# Altium footprint library Seeed-OPL-Transistor.PCBLIB: 13 footprints
Each footprint in its own frame and in the unit in brackets; x right, y up, seen from the top. Pads: shape width x height; smd on the part's side, far side on the other; paste and mask are expansions set on the pad; w line width, h text height; cw(c..) or ccw(c..) is an arc to the next point about the centre after c.
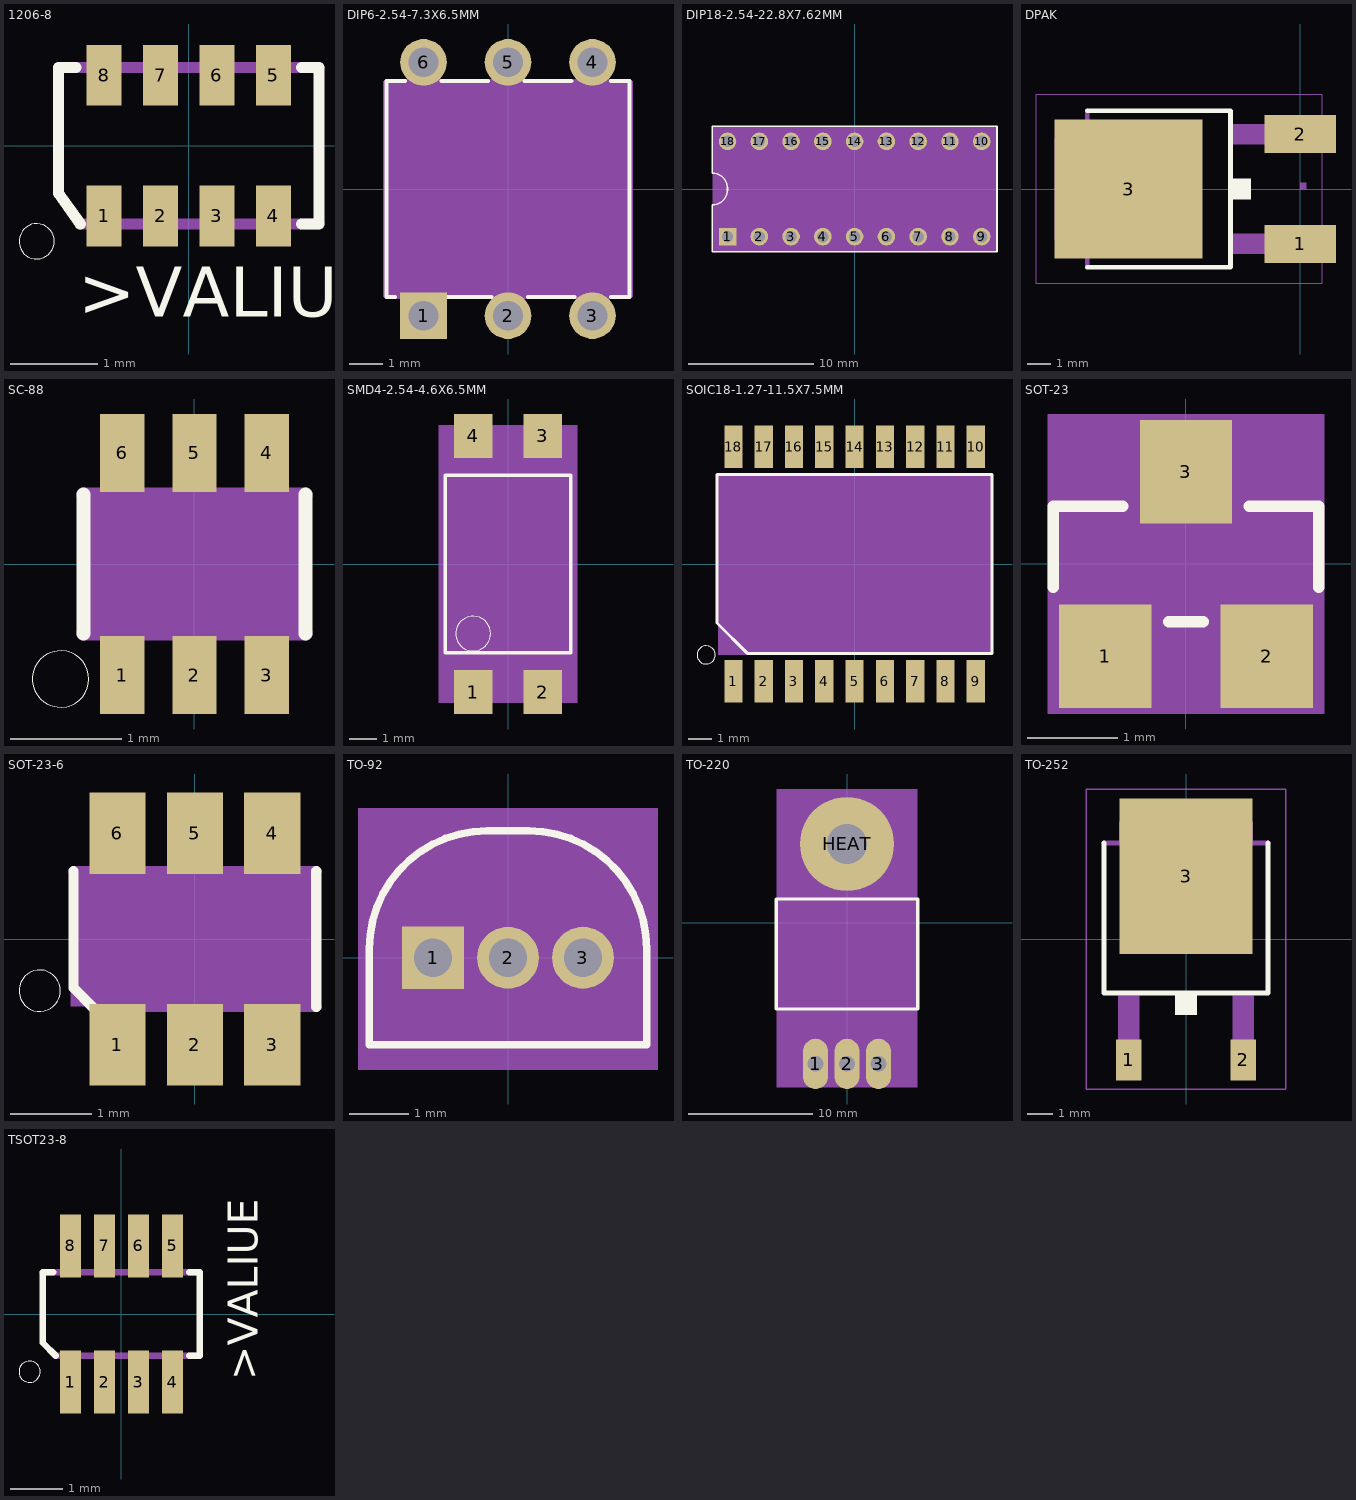
[diagram p0: the footprints below, top view; thin cyan lines are the x and y axes]

## 1206-8 [mm]
pads (8):
  rect 0.4x0.7 smd: 1(-0.975,-0.81) 2(-0.325,-0.81) 3(0.325,-0.81) 4(0.975,-0.81) 5(0.975,0.81) 6(0.325,0.81) 7(-0.325,0.81) 8(-0.975,0.81)
Top Overlay:
  circle w0: c-1.752,-1.102 r0.203
  lines w0.127: -1.3,0.9 -1.5,0.9 -1.5,-0.55 -1.25,-0.9 ; 1.3,-0.9 1.5,-0.9 1.5,0.9 1.3,0.9
  text ">VALIUE" at -1.27,-2.159 h0.98
Mechanical 16:
  lines w0.127: -1.5,0.9 1.5,0.9 ; -1.25,-0.9 1.5,-0.9

## DIP6-2.54-7.3X6.5MM [mil]
pads (6):
  rect 55.12x55.12 hole 35.43: 1(-100,-150)
  round 55.12 hole 35.43: 2(0,-150) 3(100,-150) 4(100,150) 5(0,150) 6(-100,150)
Top Overlay:
  lines w5: -143.7,127.95 -143.7,-127.95 -133.86,-127.95 ; -141.73,127.95 -122.05,127.95 ; -78.74,127.95 -23.62,127.95 ; -70.87,-127.95 -19.69,-127.95 ; 19.69,127.95 74.8,127.95 ; 23.62,-127.95 78.74,-127.95 ; 122.05,-127.95 141.73,-127.95 ; 122.05,127.95 141.73,127.95 ; 143.7,-127.95 143.7,127.95
Mechanical 16:
  lines w5: -143.7,-127.95 143.7,-127.95 ; -143.7,127.95 143.7,127.95
Mechanical 27:
  rectangle: -148.03,-127.95 148.03,127.95

## DIP18-2.54-22.8X7.62MM [mil]
pads (18):
  rect 55.12x55.12 hole 35.43: 1(-400,-150)
  round 55.12 hole 35.43: 2(-300,-150) 3(-200,-150) 4(-100,-150) 5(0,-150) 6(100,-150) 7(200,-150) 8(300,-150) 9(400,-150) 10(400,150) 11(300,150) 12(200,150) 13(100,150) 14(0,150) 15(-100,150) 16(-200,150) 17(-300,150) 18(-400,150)
Top Overlay:
  lines w5: -448.03,-196.85 448.03,-196.85 448.03,196.85 -448.03,196.85 -448.03,50 cw(c-448.03,1.97) -400,1.97 -400,-1.97 cw(c-448.03,-1.97) -448.03,-50 -448.03,-196.85
Mechanical 27:
  rectangle: -448.03,-196.85 448.03,196.85

## DPAK [mm]
pads (3):
  rect 3x1.6 smd: 1(0,-2.3) 2(0,2.3)
  rect 6.2x5.8 smd: 3(-7.18,0)
Top Overlay:
  region: -2.057,-0.432 -2.057,0.432 -2.819,0.432 -2.819,-0.432
  lines w0.203: -8.915,-3.277 -2.921,-3.277 -2.921,3.277 -8.915,3.277
Mechanical 16:
  region: 0.076,-2.718 0.076,-1.854 -2.819,-1.854 -2.819,-2.718
  region: 0.076,1.854 0.076,2.718 -2.819,2.718 -2.819,1.854
  region: 0,0 0.254,0 0.254,0.254 0,0.254
  lines w0.203: -8.915,-3.277 -8.915,3.277 ; -10.185,-2.108 -9.728,-2.565 -9.017,-2.565 -9.017,2.565 -9.728,2.565 -10.185,2.108 -10.185,-2.108
Mechanical 27:
  lines w0.051: -11.063,-3.973 -11.063,3.973 0.903,3.973 0.903,-3.973 -11.063,-3.973

## SC-88 [mm]
pads (6):
  rect 0.4x0.7 smd: 1(-0.65,-1) 2(0,-1) 3(0.65,-1) 4(0.65,1) 5(0,1) 6(-0.65,1)
Top Overlay:
  circle w0: c-1.205,-1.035 r0.254
  lines w0.127: -1,-0.625 -1,0.625 ; 1,-0.625 1,0.625
Mechanical 16:
  lines w0.127: -1,-0.625 1,-0.625 ; -1,0.625 1,0.625
Mechanical 27:
  rectangle: -1,-0.625 1,0.625

## SMD4-2.54-4.6X6.5MM [mil]
pads (4):
  rect 55.12x62.99 smd: 1(-50,-184.25) 2(50,-184.25) 3(50,184.25) 4(-50,184.25)
Top Overlay:
  circle w0: c-50,-100 r25
  lines w5: -90.55,-127.95 90.55,-127.95 90.55,127.95 -90.55,127.95 -90.55,-127.95
Mechanical 16:
  region: 0,0 10,0 10,10 0,10
  region: 0,0 10,0 10,10 0,10
  region: 0,0 10,0 10,10 0,10
  region: 0,0 10,0 10,10 0,10
Mechanical 27:
  rectangle: -100,-200 100,200

## SOIC18-1.27-11.5X7.5MM [mil]
pads (18):
  rect 30x70 smd: 1(-200,-193.5) 2(-150,-193.5) 3(-100,-193.5) 4(-50,-193.5) 5(0,-193.5) 6(50,-193.5) 7(100,-193.5) 8(150,-193.5) 9(200,-193.5) 10(200,193.5) 11(150,193.5) 12(100,193.5) 13(50,193.5) 14(0,193.5) 15(-50,193.5) 16(-100,193.5) 17(-150,193.5) 18(-200,193.5)
Top Overlay:
  circle w0: c-245,-150 r15
  lines w5: -227,-97.5 -177,-147.5 227,-147.5 227,147.5 -227,147.5 -227,-97.5
Mechanical 27:
  rectangle: -225,-150 225,150

## SOT-23 [mil]
pads (3):
  rect 40x45 smd: 1(-35,-40) 2(35,-40) 3(0,40)
Top Overlay:
  lines w5: -57.5,-10 -57.5,25 -27.5,25 ; -7.5,-25 7.5,-25 ; 27.5,25 57.5,25 57.5,-10
Mechanical 16:
  rectangle: -9,28 9,51
  rectangle: 28,-51 46,-28
  rectangle: -46,-51 -28,-28
Mechanical 27:
  rectangle: -60,-65 60,65

## SOT-23-6 [mm]
pads (6):
  rect 0.69x1 smd: 1(-0.95,-1.3) 2(0,-1.3) 3(0.95,-1.3) 4(0.95,1.3) 5(0,1.3) 6(-0.95,1.3)
Top Overlay:
  circle w0: c-1.905,-0.635 r0.254
  lines w0.127: -1.49,0.83 -1.49,-0.6 -1.26,-0.83 ; 1.49,-0.83 1.49,0.83
Mechanical 16:
  lines w0.127: -1.49,0.83 1.49,0.83 ; -1.26,-0.83 1.49,-0.83
Mechanical 27:
  rectangle: -1.524,-0.83 1.524,0.83

## TO-92 [mm]
pads (3):
  rect 1.05x1.05 hole 0.65: 1(-1.27,0)
  round 1.05 hole 0.65: 2(0,0) 3(1.27,0)
Top Overlay:
  lines w0.127: -2.35,-1.47 2.35,-1.47 2.35,0.15 ccw(c0.35,0.15) 0.35,2.15 -0.35,2.15 ccw(c-0.35,0.15) -2.35,0.15 -2.35,-1.47
Mechanical 27:
  rectangle: -2.54,-1.905 2.54,2.54

## TO-220 [mil]
pads (4):
  oval 80x160 hole 50: 1(-100,-450) 2(0,-450) 3(100,-450)
  round 300 hole 126: HEAT(0,250)
Top Overlay:
  lines w10: -225,-275 225,-275 225,75 -225,75 -225,-275
Mechanical 27:
  rectangle: -225,-525 225,425

## TO-252 [mil]
pads (3):
  rect 40x65 smd: 1(-90,-190) 2(90,-190)
  rect 208.66x244.09 smd: 3(0,98.43)
Top Overlay:
  rectangle: -17,-119 17,-89
  lines w8: -129,151 -129.02,-85 129.02,-85 129,151
Mechanical 16:
  rectangle: -107,-203 -73,-89
  rectangle: 73,-203 107,-89
  region: 0,0 10,0 10,10 0,10
  lines w8: -129.02,150.98 129.03,150.97 ; -101,155 -101,183 -83,201 83,201 101,183 101,155 -101,155
Mechanical 27:
  lines w2: -156.42,-235.55 156.42,-235.55 156.42,235.55 -156.42,235.55 -156.42,-235.55

## TSOT23-8 [mil]
pads (8):
  rect 15.75x47.24 smd: 1(-38.39,-51.18) 2(-12.8,-51.18) 3(12.8,-51.18) 4(38.39,-51.18) 5(38.39,51.18) 6(12.8,51.18) 7(-12.8,51.18) 8(-38.39,51.18)
Top Overlay:
  circle w0: c-68.98,-43.39 r8
  lines w5: -51.18,31.5 -59.06,31.5 -59.06,-21.65 -49.21,-31.5 ; 51.18,-31.5 59.06,-31.5 59.06,31.5 51.18,31.5
  text ">VALIUE" at 110,-50 h38.75
Mechanical 16:
  lines w5: -59.06,31.5 59.06,31.5 ; -49.21,-31.5 59.06,-31.5